# Altium schematic symbol library SN74AXC8T245QPWRQ1.SchLib: 1 symbol
Pins are listed as number, name and electrical type; pins without a type are passive.

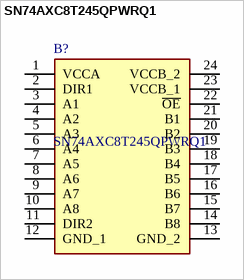
[diagram p0: symbol SN74AXC8T245QPWRQ1]

## SN74AXC8T245QPWRQ1
designator B?
Automotive 8-bit dual-supply bus transceiver w/ configurable voltage translation, 3-state output; Manufacturer_Name: Texas Instruments; Geometry.Height: 1.2mm; Mouser Part Number: 595-74AXC8T245QPWRQ1; Mouser Price/Stock: https://www.mouser.co.uk/ProductDetail/Texas-Instruments/SN74AXC8T245QPWRQ1?qs=P1JMDcb91o4mscbbcJNVBA%3D%3D; Manufacturer_Part_Number: SN74AXC8T245QPWRQ1; Datasheet Link: http://www.ti.com/lit/gpn/SN74AXC8T245-Q1
footprint SOP65P640X120-24N
pins: 1 VCCA, 2 DIR1, 3 A1, 4 A2, 5 A3, 6 A4, 7 A5, 8 A6, 9 A7, 10 A8, 11 DIR2, 12 GND_1, 13 GND_2, 14 B8, 15 B7, 16 B6, 17 B5, 18 B4, 19 B3, 20 B2, 21 B1, 22 ~{OE}, 23 VCCB_1, 24 VCCB_2